# Altium footprint library PcbLib1.PcbLib: 259 footprints (part 14 of 17)
Each footprint in its own frame and in the unit in brackets; x right, y up, seen from the top. Pads: shape width x height; smd on the part's side, far side on the other; paste and mask are expansions set on the pad; w line width, h text height; cw(c..) or ccw(c..) is an arc to the next point about the centre after c.
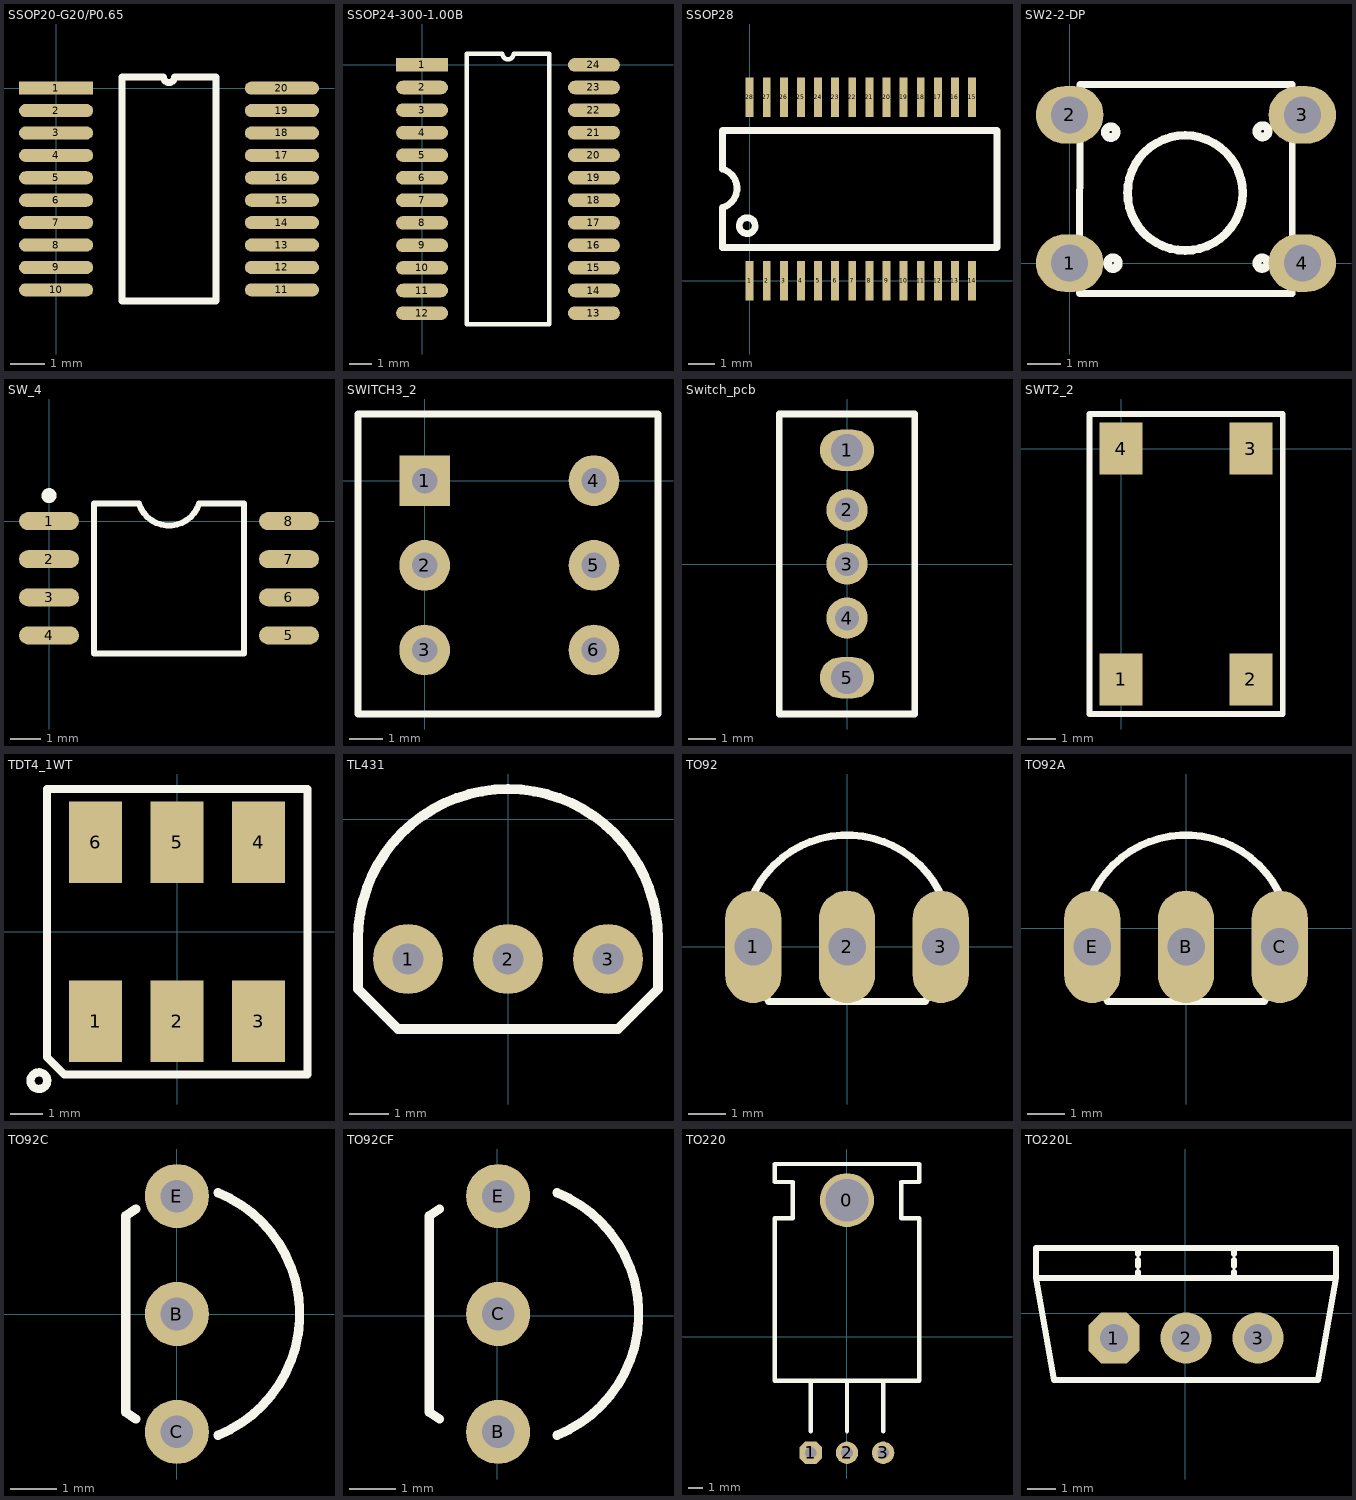
[diagram p13: the footprints below, top view; thin cyan lines are the x and y axes]

## SSOP20-G20/P0.65 [mm]
pads (20):
  rect 2.15x0.38 smd: 1(0,0)
  oval 2.15x0.38 smd: 2(0,-0.65) 3(0,-1.3) 4(0,-1.95) 5(0,-2.6) 6(0,-3.25) 7(0,-3.9) 8(0,-4.55) 9(0,-5.2) 10(0,-5.85) 11(6.55,-5.85) 12(6.55,-5.2) 13(6.55,-4.55) 14(6.55,-3.9) 15(6.55,-3.25) 16(6.55,-2.6) 17(6.55,-1.95) 18(6.55,-1.3) 19(6.55,-0.65) 20(6.55,0)
Top Overlay:
  lines w0.2: 1.91,-6.175 1.91,0.325 3.113,0.325 ccw(c3.275,0.325) 3.437,0.325 4.64,0.325 4.64,-6.175 1.91,-6.175

## SSOP24-300-1.00B [mm]
pads (24):
  rect 2.3x0.6 smd: 1(0,0)
  oval 2.3x0.6 smd: 2(0,-1) 3(0,-2) 4(0,-3) 5(0,-4) 6(0,-5) 7(0,-6) 8(0,-7) 9(0,-8) 10(0,-9) 11(0,-10) 12(0,-11) 13(7.62,-11) 14(7.62,-10) 15(7.62,-9) 16(7.62,-8) 17(7.62,-7) 18(7.62,-6) 19(7.62,-5) 20(7.62,-4) 21(7.62,-3) 22(7.62,-2) 23(7.62,-1) 24(7.62,0)
Top Overlay:
  lines w0.2: 1.985,-11.5 5.635,-11.5 5.635,0.5 4.06,0.5 cw(c3.81,0.5) 3.56,0.5 1.985,0.5 1.985,-11.5

## SSOP28 [mm]
pads (28):
  rect 0.3x1.5 smd: 1(0,0) 2(0.65,0) 3(1.3,0) 4(1.95,0) 5(2.6,0) 6(3.25,0) 7(3.9,0) 8(4.55,0) 9(5.2,0) 10(5.85,0) 11(6.5,0) 12(7.15,0) 13(7.8,0) 14(8.45,0) 15(8.45,6.985) 16(7.8,6.985) 17(7.15,6.985) 18(6.5,6.985) 19(5.85,6.985) 20(5.2,6.985) 21(4.55,6.985) 22(3.9,6.985) 23(3.25,6.985) 24(2.6,6.985) 25(1.95,6.985) 26(1.3,6.985) 27(0.65,6.985) 28(0,6.985)
Top Overlay:
  lines w0.254: -1.04,1.27 9.398,1.27 9.398,5.715 -1.03,5.715 -1.03,4.24 ; -1.03,1.27 -1.03,2.79 ; -1.02,2.79 ccw(c-1.241,3.518) -1.003,4.24 ; 0.198,2.184 ccw(c-0.092,2.1) 0.21,2.1

## SW2-2-DP [mm]
pads (4):
  oval 2x1.7 hole 1.1: 1(0,0) 2(0,4.4) 3(6.9,4.4) 4(6.9,0)
Top Overlay:
  circle w0.254: c3.422,2.083 r1.707
  circle w0.254: c5.711,0 r0.161
  circle w0.254: c5.721,3.912 r0.17
  circle w0.254: c1.217,3.886 r0.163
  circle w0.254: c1.283,0 r0.163
  lines w0.2: 0.293,-0.9 0.307,5.3 ; 6.6,-0.9 6.6,5.3
  lines w0.203: 0.293,-0.9 6.6,-0.9 ; 0.307,5.3 6.6,5.3

## SW_4 [mm]
pads (8):
  oval 2x0.6 smd: 1(0,0) 2(0,-1.27) 3(0,-2.54) 4(0,-3.81) 5(8,-3.81) 6(8,-2.54) 7(8,-1.27) 8(8,0)
Top Overlay:
  circle w0.25: c0,0.85 r0.125
  lines w0.2: 1.5,-4.405 1.5,0.595 2.995,0.595 ccw(c4,0.9) 5.005,0.595 6.5,0.595 6.5,-4.405 1.5,-4.405

## SWITCH3_2 [mil]
pads (6):
  rect 60x60 hole 30: 1(0,0)
  round 60 hole 30: 2(0,-100) 3(0,-200) 4(200,0) 5(200,-100) 6(200,-200)
Top Overlay:
  lines w7.87: -78.74,-275.59 -78.74,78.74 275.59,78.74 275.59,-275.59 -78.74,-275.59

## Switch_pcb [mm]
pads (5):
  oval 2x1.524 hole 1.2: 1(0,4.2) 5(0,-4.2)
  round 1.524 hole 0.9: 2(0,2) 3(0,0) 4(0,-2)
Top Overlay:
  lines w0.254: -2.5,-5.54 2.5,-5.54 2.5,5.54 -2.5,5.54 -2.5,-5.54

## SWT2_2 [mm]
pads (4):
  rect 1.5x1.8 smd: 1(0,-8) 2(4.5,-8) 3(4.5,0) 4(0,0)
Top Overlay:
  lines w0.2: -1.1,-9.2 -1.1,1.2 5.6,1.2 5.6,-9.2 -1.1,-9.2

## TDT4_1WT [mm]
pads (6):
  rect 1.65x2.54 smd: 1(-2.54,-2.79) 2(0,-2.79) 3(2.54,-2.79) 4(2.54,2.79) 5(0,2.79) 6(-2.54,2.79)
Top Overlay:
  circle w0.254: c-4.31,-4.64 r0.26
  lines w0.254: 4.06,4.43 4.06,-4.45 -3.52,-4.45 -4.06,-3.91 -4.06,4.45 4.06,4.45

## TL431 [mil]
pads (3):
  round 70 hole 31.5: 1(-100,-140) 2(0,-140) 3(100,-140)
Top Overlay:
  lines w10: -150,-170 -150,-120 cw(c0,-120) 150,-120 150,-170 110,-210 -110,-210 -150,-170

## TO92 [mil]
pads (3):
  oval 60x120 hole 40: 1(-100,0) 2(0,0) 3(100,0)
Top Overlay:
  lines w7.87: -102.76,49.85 cw(c0,8.33) 102.76,49.85 ; -89.08,-49.71 -83.33,-58.33 83.33,-58.33 89.08,-49.71

## TO92A [mil]
pads (3):
  oval 60x120 hole 40: B(0,-20) C(100,-20) E(-100,-20)
Top Overlay:
  lines w7.87: -102.76,29.85 cw(c0,-11.67) 102.76,29.85 ; -89.08,-69.71 -83.33,-78.33 83.33,-78.33 89.08,-69.71

## TO92C [mm]
pads (3):
  round 1.38 hole 0.7: B(0,0) C(0,-2.54) E(0,2.54)
Top Overlay:
  lines w0.2: -0.882,-2.263 -1.101,-2.117 -1.101,2.117 -0.882,2.263 ; 0.885,-2.61 ccw(c-0.169,0) 0.885,2.61

## TO92CF [mm]
pads (3):
  round 1.38 hole 0.7: B(0.02,-2.5) C(0.02,0.04) E(0.02,2.58)
Top Overlay:
  lines w0.2: -1.243,-2.223 -1.462,-2.077 -1.462,2.157 -1.243,2.303 ; 1.286,-2.57 ccw(c0.232,0.04) 1.286,2.65

## TO220 [mil]
pads (4):
  round 149.61 hole 118.11: 0(0.87,378.82)
  oct 62x62 hole 32: 1(-99.13,-321.18)
  round 62 hole 32: 2(0.87,-321.18) 3(100.87,-321.18)
Top Overlay:
  lines w12: -99.13,-261.18 -99.13,-121.18 ; 0.87,-261.18 0.87,-121.18 ; 100.87,-261.18 100.87,-121.18 ; -199.13,-121.18 -199.13,328.82 -149.13,328.82 -149.13,428.82 -199.13,428.82 -199.13,478.82 200.87,478.82 200.87,428.82 150.87,428.82 150.87,328.82 200.87,328.82 200.87,-121.18 -199.13,-121.18

## TO220L [mm]
pads (3):
  oct 1.8x1.8 hole 1: 1(-2.514,-0.876)
  round 1.8 hole 1: 2(0.026,-0.876) 3(2.566,-0.876)
Top Overlay:
  lines w0.2: -1.667,1.241 -1.667,1.452 ; -1.667,1.664 -1.667,1.876 ; -1.667,2.087 -1.667,2.299 ; 1.719,1.241 1.719,1.452 ; 1.719,1.664 1.719,1.876 ; 1.719,2.087 1.719,2.299 ; -5.266,1.241 -5.266,2.299 5.318,2.299 5.318,1.241 ; -5.266,1.241 -4.631,-2.358 4.683,-2.358 5.318,1.241 ; -5.266,1.241 5.318,1.241